# Altium footprint library CONN_W2B.PcbLib: 89 footprints (part 6 of 6)
Each footprint in its own frame and in the unit in brackets; x right, y up, seen from the top. Pads: shape width x height; smd on the part's side, far side on the other; paste and mask are expansions set on the pad; w line width, h text height; cw(c..) or ccw(c..) is an arc to the next point about the centre after c.
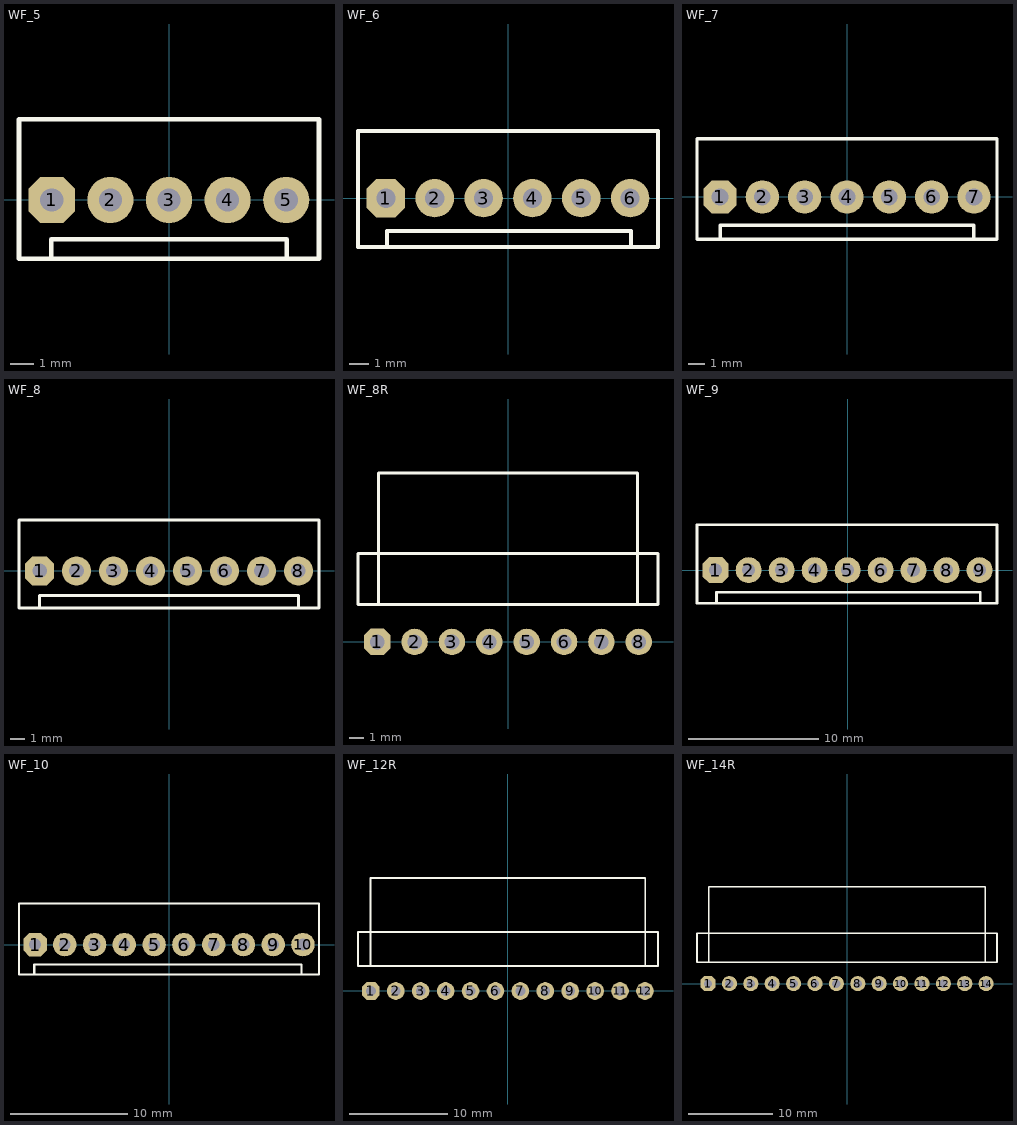
[diagram p5: the footprints below, top view; thin cyan lines are the x and y axes]

## WF_5 [mm] "DS1070  WF, Cvilux CI31 pitch 2.54mm"
pads (5):
  oct 2x2 hole 1: 1(-5.08,0)
  round 2 hole 1: 2(-2.54,0) 3(0,0) 4(2.54,0) 5(5.08,0)
Top Overlay:
  lines w0.2: -5.1,-2.548 -5.1,-1.7 5.1,-1.7 5.1,-2.548 ; -6.5,-2.548 -6.5,3.5 6.5,3.5 6.5,-2.548 -6.5,-2.548
3D body "User Library-CI31_5.step": height 11.56, standoff -3.24, extent -6.35,-2.4 6.35,3.4

## WF_6 [mm] "DS1070  WF, Cvilux CI31 pitch 2.54mm"
pads (6):
  oct 2x2 hole 1: 1(-6.35,0)
  round 2 hole 1: 2(-3.81,0) 3(-1.27,0) 4(1.27,0) 5(3.81,0) 6(6.35,0)
Top Overlay:
  lines w0.2: -6.3,-2.548 -6.3,-1.7 6.4,-1.7 6.4,-2.548 ; -7.8,-2.548 -7.8,3.5 7.8,3.5 7.8,-2.548 -7.8,-2.548
3D body "User Library-CI31_6.step": height 11.56, standoff -3.24, extent -7.62,-2.402 7.62,3.398

## WF_7 [mm] "DS1070  WF, Cvilux CI31 pitch 2.54mm"
pads (7):
  oct 2x2 hole 1: 1(-7.62,0)
  round 2 hole 1: 2(-5.08,0) 3(-2.54,0) 4(0,0) 5(2.54,0) 6(5.08,0) 7(7.62,0)
Top Overlay:
  lines w0.2: -7.6,-2.548 -7.6,-1.7 7.6,-1.7 7.6,-2.548 ; -9,-2.548 9,-2.548 9,3.5 -9,3.5 -9,-2.548
3D body "User Library-CI31_7.step": height 11.56, standoff -3.24, extent -8.89,-2.4 8.89,3.4

## WF_8 [mm] "DS1070  WF, Cvilux CI31 pitch 2.54mm"
pads (8):
  oct 2x2 hole 1: 1(-8.89,0)
  round 2 hole 1: 2(-6.35,0) 3(-3.81,0) 4(-1.27,0) 5(1.27,0) 6(3.81,0) 7(6.35,0) 8(8.89,0)
Top Overlay:
  lines w0.2: -1.346,-2.548 -10.3,-2.548 -10.3,3.5 10.3,3.5 10.3,-2.548 1.346,-2.548 ; -8.9,-2.548 -8.9,-1.7 8.9,-1.7 8.9,-2.548 -8.9,-2.548
3D body "User Library-CI31_8.step": height 11.56, standoff -3.24, extent -10.16,-2.402 10.16,3.398

## WF_8R [mm] "DS1070  WF, Cvilux CI31 pitch 2.54mm right angle"
pads (8):
  oct 1.8x1.8 hole 1 mask+0.1: 1(-8.89,0)
  round 1.8 hole 1 mask+0.1: 2(-6.35,0) 3(-3.81,0) 4(-1.27,0) 5(1.27,0) 6(3.81,0) 7(6.35,0) 8(8.89,0)
Top Overlay:
  lines w0.2: -8.8,2.548 -8.8,11.5 8.8,11.5 8.8,2.548 ; -10.2,2.548 10.2,2.548 10.2,6 -10.2,6 -10.2,2.548
3D body "molex-kk254-right-8.stp": height 6.38, standoff -3.56, extent -10.084,-0.336 10.084,12.593

## WF_9 [mm] "DS1070  WF, Cvilux CI31 pitch 2.54mm"
pads (9):
  oct 2x2 hole 1: 1(-10.16,0)
  round 2 hole 1: 2(-7.62,0) 3(-5.08,0) 4(-2.54,0) 5(0,0) 6(2.54,0) 7(5.08,0) 8(7.62,0) 9(10.16,0)
Top Overlay:
  lines w0.2: -1.346,-2.548 -11.6,-2.548 -11.6,3.5 11.5,3.5 11.5,-2.548 1.346,-2.548 ; -10.1,-2.548 10.2,-2.548 10.2,-1.7 -10.1,-1.7 -10.1,-2.548
3D body "User Library-CI31_9.step": height 11.56, standoff -3.24, extent -11.43,-2.4 11.43,3.4

## WF_10 [mm] "DS1070  WF, Cvilux CI31 pitch 2.54mm"
pads (10):
  oct 2x2 hole 1: 1(-11.43,0)
  round 2 hole 1: 2(-8.89,0) 3(-6.35,0) 4(-3.81,0) 5(-1.27,0) 6(1.27,0) 7(3.81,0) 8(6.35,0) 9(8.89,0) 10(11.43,0)
Top Overlay:
  lines w0.2: -1.346,-2.548 -12.8,-2.548 -12.8,3.5 12.8,3.5 12.8,-2.548 1.346,-2.548 ; -11.5,-2.548 -11.5,-1.7 11.3,-1.7 11.3,-2.548 -11.5,-2.548
3D body "User Library-CI31_10.step": height 11.56, standoff -3.24, extent -12.7,-2.402 12.7,3.398

## WF_12R [mm] "DS1070  WF, Cvilux CI31 pitch 2.54mm right angle"
pads (12):
  oct 1.8x1.8 hole 1 mask+0.1: 1(-13.97,0)
  round 1.8 hole 1 mask+0.1: 2(-11.43,0) 3(-8.89,0) 4(-6.35,0) 5(-3.81,0) 6(-1.27,0) 7(1.27,0) 8(3.81,0) 9(6.35,0) 10(8.89,0) 11(11.43,0) 12(13.97,0)
Top Overlay:
  lines w0.2: -14,2.548 -14,11.5 14,11.5 14,2.548 ; -15.28,2.548 15.3,2.548 15.3,6 -15.28,6 -15.28,2.548
3D body "molex-kk254-right-12.stp": height 6.38, standoff -3.56, extent -15.164,-0.3 15.164,12.629

## WF_14R [mm] "DS1070  WF, Cvilux CI31 pitch 2.54mm right angle"
pads (14):
  oct 1.8x1.8 hole 1 mask+0.1: 1(-16.51,0)
  round 1.8 hole 1 mask+0.1: 2(-13.97,0) 3(-11.43,0) 4(-8.89,0) 5(-6.35,0) 6(-3.81,0) 7(-1.27,0) 8(1.27,0) 9(3.81,0) 10(6.35,0) 11(8.89,0) 12(11.43,0) 13(13.97,0) 14(16.51,0)
Top Overlay:
  lines w0.2: -16.42,2.548 -16.42,11.5 16.42,11.5 16.42,2.548 ; -17.82,2.548 -17.82,6 17.8,6 17.8,2.548 -17.82,2.548
3D body "molex-kk254-right-14.stp": height 6.38, standoff -3.56, extent -17.704,-0.3 17.704,12.629